# Altium footprint library PUMAlib.PcbLib: 47 footprints (part 1 of 3)
Each footprint in its own frame and in the unit in brackets; x right, y up, seen from the top. Pads: shape width x height; smd on the part's side, far side on the other; paste and mask are expansions set on the pad; w line width, h text height; cw(c..) or ccw(c..) is an arc to the next point about the centre after c.
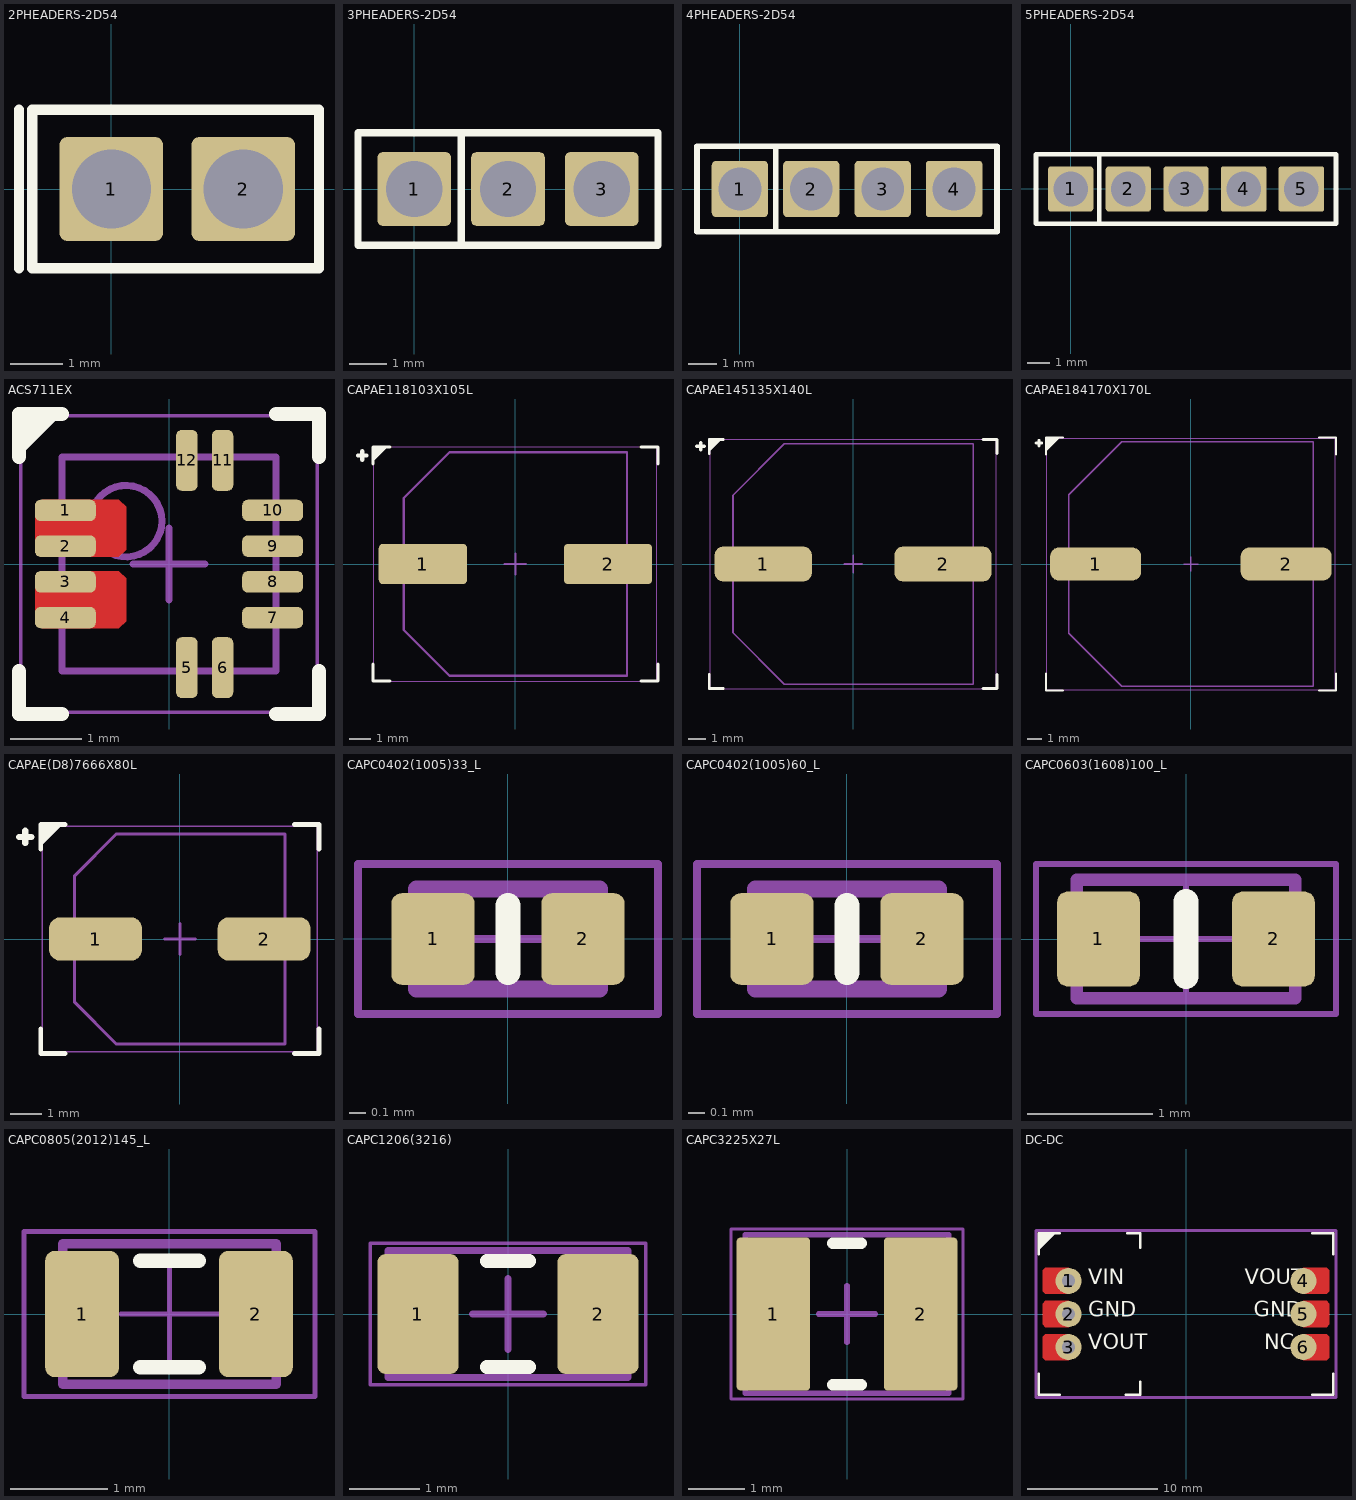
[diagram p0: the footprints below, top view; thin cyan lines are the x and y axes]

## 2PHEADERS-2D54 [mm]
pads (2):
  rrect15% 2x2 hole 1.524: 1(0,0) 2(2.54,0)
Top Overlay:
  lines w0.2: -1.778,-1.524 -1.778,1.524 ; -1.524,-1.524 4,-1.524 4,1.524 -1.524,1.524 -1.524,-1.524

## 3PHEADERS-2D54 [mm]
pads (3):
  rrect15% 2x2 hole 1.524: 1(0,0) 2(2.54,0) 3(5.08,0)
Top Overlay:
  lines w0.2: 1.27,-1.524 1.27,1.524 ; -1.524,-1.524 6.604,-1.524 6.604,1.524 -1.524,1.524 -1.524,-1.524

## 4PHEADERS-2D54 [mm]
pads (4):
  rrect15% 2x2 hole 1.524: 1(0,0) 2(2.54,0) 3(5.08,0)
  rrect10% 2x2 hole 1.524: 4(7.62,0)
Top Overlay:
  lines w0.2: 1.27,-1.524 1.27,1.524 ; -1.524,-1.524 9.144,-1.524 9.144,1.524 -1.524,1.524 -1.524,-1.524

## 5PHEADERS-2D54 [mm]
pads (5):
  rrect15% 2x2 hole 1.524: 1(0,0) 2(2.54,0) 3(5.08,0)
  rrect10% 2x2 hole 1.524: 4(7.62,0) 5(10.16,0)
Top Overlay:
  lines w0.2: 1.27,-1.524 1.27,1.524 ; -1.524,-1.524 11.684,-1.524 11.684,1.524 -1.524,1.524 -1.524,-1.524

## ACS711EX [mm] "QFN,"
height 0.8
pads (12):
  rrect50% 0.85x0.3 smd: 1(-1.45,0.75) 2(-1.45,0.25) 3(-1.45,-0.25) 4(-1.45,-0.75) 7(1.45,-0.75) 8(1.45,-0.25) 9(1.45,0.25) 10(1.45,0.75)
  rrect50% 0.3x0.85 smd: 5(0.25,-1.45) 6(0.75,-1.45) 11(0.75,1.45) 12(0.25,1.45)
Top Layer:
  region: -0.7,0.1 -0.6,0.2 -0.6,0.8 -0.7,0.9 -1.775,0.9 -1.875,0.8 -1.875,0.2 -1.775,0.1
  region: -0.7,-0.9 -0.6,-0.8 -0.6,-0.2 -0.7,-0.1 -1.775,-0.1 -1.875,-0.2 -1.875,-0.8 -1.775,-0.9
Top Overlay:
  region: -2.1,1.5 -1.5,2.1 -2.1,2.1
  lines w0.2: -2.1,-1.5 -2.1,-2.1 -1.5,-2.1 ; -2.1,1.5 -2.1,2.1 -1.5,2.1 ; 1.5,-2.1 2.1,-2.1 2.1,-1.5 ; 1.5,2.1 2.1,2.1 2.1,1.5
Top Assembly:
  circle w0.1: c-0.6,0.6 r0.5
  lines w0.1: -1.5,-1.5 1.5,-1.5 1.5,1.5 -1.5,1.5 -1.5,-1.5
Mechanical 15:
  lines w0.05: -2.075,-2.075 2.075,-2.075 2.075,2.075 -2.075,2.075 -2.075,-2.075
  lines w0.1: -0.5,0 0.5,0 ; 0,-0.5 0,0.5
3D body "ACS711EX.step": height 0.8, standoff 0, extent -1.58,-1.58 1.58,1.58

## CAPAE118103X105L [mm] "Aluminum Electrolytic Capacitor, Body 10,30x10,30x10,50mm, IPC High Density"
height 10.5
pads (2):
  rrect20% 4.15x1.9 smd: 1(-4.35,0) 2(4.35,0)
Top Overlay:
  region: -6.7,4.8 -6,5.5 -6.7,5.5
  lines w0.15: -6.7,-4.7 -6.7,-5.5 -5.9,-5.5 ; -6.7,4.7 -6.7,5.5 -5.9,5.5 ; 5.9,-5.5 6.7,-5.5 6.7,-4.7 ; 5.9,5.5 6.7,5.5 6.7,4.7
  lines w0.2: -7.4,5.1 -7,5.1 ; -7.2,4.9 -7.2,5.3
Top Assembly:
  lines w0.1: -5.25,-3.1 -5.25,3.1 -3.1,5.25 5.25,5.25 5.25,-5.25 -3.1,-5.25 -5.25,-3.1
Mechanical 15:
  lines w0.05: -6.65,-5.5 6.65,-5.5 6.65,5.5 -6.65,5.5 -6.65,-5.5
  lines w0.1: -0.5,0 0.5,0 ; 0,-0.5 0,0.5
3D body "CAPAE118103X105L.step": height 10.5, standoff 0, extent -5.875,-5.25 5.875,5.25

## CAPAE145135X140L [mm] "Aluminum Electrolytic Capacitor, Body 13,50x13,50x14,00mm, IPC High Density"
height 14
pads (2):
  rrect50% 5.55x2 smd: 1(-5.125,0) 2(5.125,0)
Top Overlay:
  region: -8.2,6.4 -7.5,7.1 -8.2,7.1
  lines w0.15: -8.2,-6.3 -8.2,-7.1 -7.4,-7.1 ; -8.2,6.3 -8.2,7.1 -7.4,7.1 ; 7.4,-7.1 8.2,-7.1 8.2,-6.3 ; 7.4,7.1 8.2,7.1 8.2,6.3
  lines w0.2: -8.9,6.7 -8.5,6.7 ; -8.7,6.5 -8.7,6.9
Top Assembly:
  lines w0.1: -6.85,-3.925 -6.85,3.925 -3.925,6.85 6.85,6.85 6.85,-6.85 -3.925,-6.85 -6.85,-3.925
Mechanical 15:
  lines w0.05: -8.15,-7.1 8.15,-7.1 8.15,7.1 -8.15,7.1 -8.15,-7.1
  lines w0.1: -0.5,0 0.5,0 ; 0,-0.5 0,0.5
3D body "CAPAE145135X140L.step": height 14, standoff 0, extent -7.25,-6.85 7.25,6.85

## CAPAE184170X170L [mm] "Aluminum Electrolytic Capacitor, Body 17,00x17,00x17,00mm, IPC High Density"
height 17
pads (2):
  rrect50% 6.4x2.3 smd: 1(-6.7,0) 2(6.7,0)
Top Overlay:
  region: -10.2,7.9 -9.2,8.9 -10.2,8.9
  lines w0.15: -10.2,-7.7 -10.2,-8.9 -9,-8.9 ; -10.2,7.7 -10.2,8.9 -9,8.9 ; 9,-8.9 10.2,-8.9 10.2,-7.7 ; 9,8.9 10.2,8.9 10.2,7.7
  lines w0.2: -10.9,8.5 -10.5,8.5 ; -10.7,8.3 -10.7,8.7
Top Assembly:
  lines w0.1: -8.6,-4.875 -8.6,4.875 -4.875,8.6 8.6,8.6 8.6,-8.6 -4.875,-8.6 -8.6,-4.875
Mechanical 15:
  lines w0.05: -10.15,-8.85 10.15,-8.85 10.15,8.85 -10.15,8.85 -10.15,-8.85
  lines w0.1: -0.5,0 0.5,0 ; 0,-0.5 0,0.5
3D body "CAPAE184170X170L.step": height 17, standoff 0, extent -9.2,-8.6 9.2,8.6

## CAPAE(D8)7666X80L [mm] "Aluminum Electrolytic Capacitor, Body 6,60x6,60x8,00mm, IPC High Density"
height 8
pads (2):
  rrect50% 3x1.4 smd: 1(-2.725,0) 2(2.725,0)
Top Overlay:
  region: -4.5,3 -3.8,3.7 -4.5,3.7
  lines w0.15: -4.5,-2.9 -4.5,-3.7 -3.7,-3.7 ; -4.5,2.9 -4.5,3.7 -3.7,3.7 ; 3.7,-3.7 4.5,-3.7 4.5,-2.9 ; 3.7,3.7 4.5,3.7 4.5,2.9
  lines w0.2: -5.2,3.3 -4.8,3.3 ; -5,3.1 -5,3.5
Top Assembly:
  lines w0.1: -3.4,-2.05 -2.05,-3.4 3.4,-3.4 3.4,3.4 -2.05,3.4 -3.4,2.05 -3.4,-2.05
Mechanical 15:
  lines w0.05: -4.45,-3.65 -4.45,3.65 4.45,3.65 4.45,-3.65 -4.45,-3.65
  lines w0.1: -0.5,0 0.5,0 ; 0,-0.5 0,0.5
3D body "CAPAE(D8)7666X80L.step": height 8, standoff 0, extent -3.8,-3.4 3.8,3.4

## CAPC0402(1005)33_L [mm]
pads (2):
  rrect25% 0.5x0.55 smd: 1(-0.45,0) 2(0.45,0)
Top Overlay:
  lines w0.15: 0,-0.2 0,0.2
Top Assembly:
  lines w0.05: -0.275,0 0.275,0 ; 0,-0.275 0,0.275 ; -0.9,-0.45 0.9,-0.45 0.9,0.45 -0.9,0.45 -0.9,-0.45
Top 3D Body:
  lines w0.1: -0.55,-0.3 -0.55,0.3 0.55,0.3 0.55,-0.3 -0.55,-0.3
3D body "CAPC1005X55N EIA 0402.STEP": height 0.55, standoff 0, extent -0.5,-0.25 0.5,0.25

## CAPC0402(1005)60_L [mm]
pads (2):
  rrect25% 0.5x0.55 smd: 1(-0.45,0) 2(0.45,0)
Top Overlay:
  lines w0.15: 0,-0.2 0,0.2
Top Assembly:
  lines w0.05: -0.275,0 0.275,0 ; 0,-0.275 0,0.275 ; -0.9,-0.45 -0.9,0.45 0.9,0.45 0.9,-0.45 -0.9,-0.45
Top 3D Body:
  lines w0.1: -0.55,-0.3 0.55,-0.3 0.55,0.3 -0.55,0.3 -0.55,-0.3
3D body "CAPC1005X60N EIA 0402.STEP": height 0.6, standoff 0, extent -0.5,-0.25 0.5,0.25

## CAPC0603(1608)100_L [mm]
pads (2):
  rrect25% 0.66x0.76 smd: 1(-0.7,0) 2(0.7,0)
Top Overlay:
  lines w0.2: 0,-0.3 0,0.3
Bottom 3D Body:
  lines w0.1: -0.875,-0.475 0.875,-0.475 0.875,0.475 -0.875,0.475 -0.875,-0.475
Bottom Assembly:
  lines w0.05: -0.475,0 0.475,0 ; 0,-0.475 0,0.475 ; -1.2,-0.6 -1.2,0.6 1.2,0.6 1.2,-0.6 -1.2,-0.6
3D body "CAPC1608X95N EIA 0603.STEP": height 0.95, standoff 0, extent -0.8,-0.4 0.8,0.4

## CAPC0805(2012)145_L [mm]
pads (2):
  rrect25% 0.76x1.3 smd: 1(-0.9,0) 2(0.89,0)
Top Overlay:
  lines w0.15: -0.3,-0.55 0.3,-0.55 ; -0.3,0.55 0.3,0.55
Top Assembly:
  lines w0.05: -0.5,0 0.5,0 ; 0,-0.5 0,0.5 ; -1.5,-0.85 -1.5,0.85 1.5,0.85 1.5,-0.85 -1.5,-0.85
Top 3D Body:
  lines w0.1: -1.1,-0.725 1.1,-0.725 1.1,0.725 -1.1,0.725 -1.1,-0.725
3D body "CAPC2012X145N EIA 0805.STEP": height 1.45, standoff 0, extent -1,-0.6 1,0.6

## CAPC1206(3216) [mm] "Chip Capacitor, 2-Leads, Body 3,20x1,60mm, IPC High Density"
height 1.6
pads (2):
  rrect20% 1.15x1.7 smd: 1(-1.275,0) 2(1.275,0)
Top Overlay:
  lines w0.2: -0.3,-0.75 0.3,-0.75 ; -0.3,0.75 0.3,0.75
Top Assembly:
  lines w0.1: -1.7,-0.9 1.7,-0.9 1.7,0.9 -1.7,0.9 -1.7,-0.9
Mechanical 15:
  lines w0.05: -1.95,-1 1.95,-1 1.95,1 -1.95,1 -1.95,-1
  lines w0.1: -0.5,0 0.5,0 ; 0,-0.5 0,0.5
3D body: height 1.6, standoff 0, extent 1.15,-0.9 1.7,0.9
3D body: height 1.6, standoff 0, extent -1.7,-0.9 -1.15,0.9
3D body: height 1.6, standoff 0, extent -1.15,-0.9 1.15,0.9

## CAPC3225X27L [mm] "Chip Capacitor, 2-Leads, Body 3,20x2,50mm, IPC High Density"
height 2.7
pads (2):
  rrect10% 1.3x2.7 smd: 1(-1.3,0) 2(1.3,0)
Top Overlay:
  lines w0.2: -0.25,-1.25 0.25,-1.25 ; -0.25,1.25 0.25,1.25
Top Assembly:
  lines w0.1: -1.8,-1.4 -1.8,1.4 1.8,1.4 1.8,-1.4 -1.8,-1.4
Mechanical 15:
  lines w0.05: -2.05,-1.5 -2.05,1.5 2.05,1.5 2.05,-1.5 -2.05,-1.5
  lines w0.1: -0.5,0 0.5,0 ; 0,-0.5 0,0.5
3D body "CAPC3225X27L.step": height 2.7, standoff 0, extent -1.8,-1.4 1.8,1.4

## DC-DC [mm]
height 10
pads (6):
  round 2 hole 1.016: 1(-9,2.54) 2(-9,0) 3(-9,-2.54)
  round 2 smd: 4(9,2.54) 5(9,0) 6(9,-2.54)
Top Layer:
  region: 9,-3.54 10.8,-3.54 11,-3.34 11,-1.74 10.8,-1.54 9,-1.54
  region: 9,-1 10.8,-1 11,-0.8 11,0.8 10.8,1 9,1
  region: 9,1.54 10.8,1.54 11,1.74 11,3.34 10.8,3.54 9,3.54
  region: -9,-1.54 -10.8,-1.54 -11,-1.74 -11,-3.34 -10.8,-3.54 -9,-3.54
  region: -9,1 -10.8,1 -11,0.8 -11,-0.8 -10.8,-1 -9,-1
  region: -9,3.54 -10.8,3.54 -11,3.34 -11,1.74 -10.8,1.54 -9,1.54
Top Overlay:
  region: -11.3,6.2 -11.3,4.9 -10,6.2
  lines w0.2: -11.3,-4.6 -11.3,-6.2 -9.7,-6.2 ; -11.3,4.6 -11.3,6.2 -9.7,6.2 ; -4.6,-6.2 -3.5,-6.2 -3.5,-5.2 ; -4.5,6.2 -3.5,6.2 -3.5,5.1 ; 9.7,-6.2 11.3,-6.2 11.3,-4.6 ; 9.7,6.2 11.3,6.2 11.3,4.6
  text "GND" at -7.5,-0.6 h2
  text "GND" at 5.2,-0.6 h2
  text "VIN" at -7.5,1.9 h2
  text "VOUT" at -7.5,-3.1 h2
  text "VOUT" at 4.5,1.9 h2
  text "NC" at 6,-3.1 h2
Mechanical 15:
  lines w0.2: -11.5,-6.4 11.5,-6.4 11.5,6.4 -11.5,6.4 -11.5,-6.4